# Altium schematic symbol library PowerJack.SchLib: 3 symbols
Pins are listed as number, name and electrical type; pins without a type are passive.

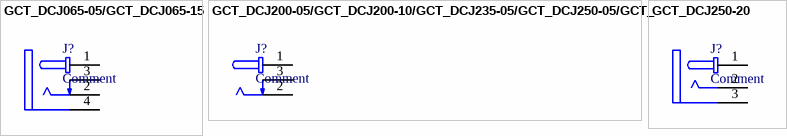
[diagram p0: symbols GCT_DCJ065-05/GCT_DCJ065-15 to GCT_DCJ250-20]

## GCT_DCJ065-05/GCT_DCJ065-15
designator J?, comment Comment
pins: 1 "Centre pin", 2 "Shunt terminal", 3 "Tip spring", 4 "Shell"

## GCT_DCJ200-05/GCT_DCJ200-10/GCT_DCJ235-05/GCT_DCJ250-05/GCT_DCJ250-10/GCT_DCJ250-15
designator J?, comment Comment
pins: 1 "Centre pin", 2 "Tip spring", 3 "Shunt terminal"

## GCT_DCJ250-20
designator J?, comment Comment
pins: 1 "Centre pin", 2 "Tip spring", 3 "Ground terminal"